# Altium footprint library BioRocketFootprints.pcblib: 40 footprints (part 1 of 3)
Each footprint in its own frame and in the unit in brackets; x right, y up, seen from the top. Pads: shape width x height; smd on the part's side, far side on the other; paste and mask are expansions set on the pad; w line width, h text height; cw(c..) or ccw(c..) is an arc to the next point about the centre after c.
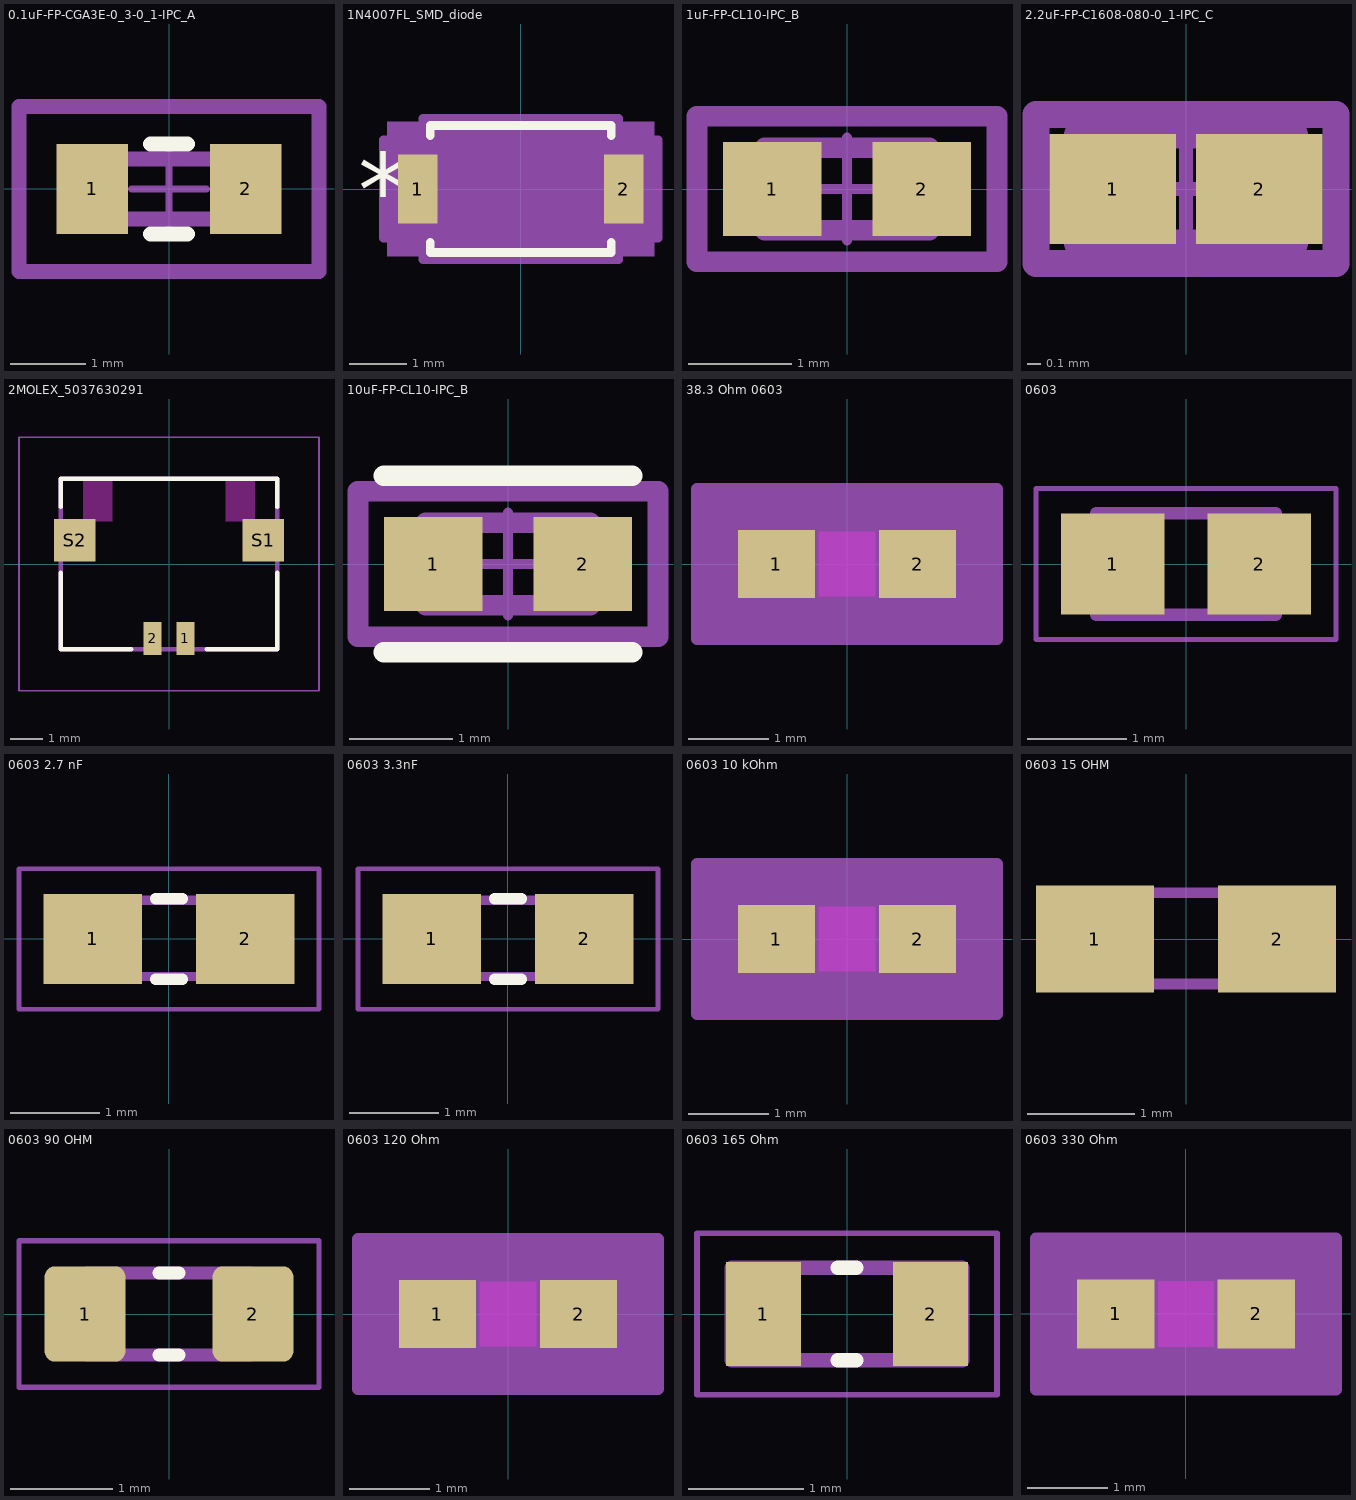
[diagram p0: the footprints below, top view; thin cyan lines are the x and y axes]

## 0.1uF-FP-CGA3E-0_3-0_1-IPC_A [mm]
pads (2):
  rect 0.956x1.206 smd paste+0 mask+0: 1(-1.025,0) 2(1.025,0)
Top Overlay:
  lines w0.2: -0.247,-0.603 0.247,-0.603 ; -0.247,0.603 0.247,0.603
Top Assembly:
  lines w0.2: -2.003,-1.103 -2.003,1.103 2.003,1.103 2.003,-1.103 -2.003,-1.103
  text ".Designator" at 0,0.188 h1
Top Courtyard:
  lines w0.2: -2.003,-1.103 -2.003,1.103 2.003,1.103 2.003,-1.103 -2.003,-1.103
Top Component Center:
  lines w0.1: -0.5,0 0.5,0 ; 0,-0.5 0,0.5
Top 3D Body:
  lines w0.2: -0.8,-0.4 -0.8,0.4 0.8,0.4 0.8,-0.4 -0.8,-0.4
3D body "Cap_TDK_CGA3E3X7R1E334K080AB_eec.STEP": height 0.25, standoff 0, extent -2.003,-1.103 2.003,1.103

## 1N4007FL_SMD_diode [mil]
pads (2):
  rect 27x47 smd paste+0 mask+0: 1(-70.5,0) 2(70.5,0)
Top Overlay:
  lines w6: -62,-36.6 -62,-43.5 62,-43.5 62,-36.6 ; -62,36.6 -62,43.5 62,43.5 62,36.6
  text "*" at -111.5,-25 h50
Top Designator:
  region: 91.5,-46 -91.5,-46 -91.5,46 91.5,46
Top 3D Body:
  lines w1: -57,-19.25 -37.75,-38.5 ; -57,19.25 -37.75,38.5 ; -76,-23.5 -57,-23.5 -57,23.5 -76,23.5 -76,-23.5 ; -57,-38.5 -57,38.5 57,38.5 57,-38.5 -57,-38.5 ; 57,-23.5 76,-23.5 76,23.5 57,23.5 57,-23.5
  text "*" at -59.5,-25 h50
Top Courtyard (Mech15):
  region: -67,-33.5 -94,-33.5 -94,33.5 -67,33.5 -67,48.5 67,48.5 67,33.5 94,33.5 94,-33.5 67,-33.5 67,-48.5 -67,-48.5
  lines w6: -94,-33.5 -67,-33.5 -67,-48.5 67,-48.5 67,-33.5 94,-33.5 94,33.5 67,33.5 67,48.5 -67,48.5 -67,33.5 -94,33.5 -94,-33.5
3D body "CR_SOD-123FL_SME.step": height 55.24, standoff 0, extent -75.98,-38.5 75.98,38.5

## 1uF-FP-CL10-IPC_B [mm]
pads (2):
  rect 0.958x0.912 smd paste+0 mask+0: 1(-0.727,0) 2(0.727,0)
Top Assembly:
  lines w0.2: -1.456,-0.706 1.456,-0.706 1.456,0.706 -1.456,0.706 -1.456,-0.706
  text ".Designator" at 0,0.188 h1
Top Courtyard:
  lines w0.2: -1.456,-0.706 1.456,-0.706 1.456,0.706 -1.456,0.706 -1.456,-0.706
Top Component Center:
  lines w0.1: -0.5,0 0.5,0 ; 0,-0.5 0,0.5
Top 3D Body:
  lines w0.2: -0.8,-0.4 -0.8,0.4 0.8,0.4 0.8,-0.4 -0.8,-0.4
3D body "Cap_Samsung_CL10B473KO8NNWC_eec.STEP": height 0.25, standoff 0, extent -1.456,-0.706 1.456,0.706

## 2.2uF-FP-C1608-080-0_1-IPC_C [mm]
pads (2):
  rect 0.931x0.812 smd paste+0 mask+0: 1(-0.541,0) 2(0.541,0)
Top Assembly:
  lines w0.2: -1.106,-0.55 1.106,-0.55 1.106,0.55 -1.106,0.55 -1.106,-0.55
  text ".Designator" at 0,0.188 h1
Top Courtyard:
  lines w0.2: -1.106,-0.55 1.106,-0.55 1.106,0.55 -1.106,0.55 -1.106,-0.55
Top Component Center:
  lines w0.1: -0.5,0 0.5,0 ; 0,-0.5 0,0.5
Top 3D Body:
  lines w0.2: -0.8,-0.4 0.8,-0.4 0.8,0.4 -0.8,0.4 -0.8,-0.4
3D body "Cap_TDK_C1608X6S0G106K080AB_eec.STEP": height 0.25, standoff 0, extent -1.106,-0.55 1.106,0.55

## 2MOLEX_5037630291 [mm]
height 1.5
pads (4):
  rect 0.55x1 smd mask+0.076: 1(0.5,-2.265) 2(-0.5,-2.265)
  rect 1.26x1.3 smd mask+0.076: S1(2.875,0.725) S2(-2.875,0.725)
Top Layer keep-out:
  region: -1.735,1.295 -2.24,1.295 -2.24,1.38 -2.605,1.38 -2.605,2.545 -1.735,2.545
  region: 2.605,1.38 2.24,1.38 2.24,1.295 1.735,1.295 1.735,2.545 2.605,2.545
Top Overlay:
  lines w0.127: -3.3,-0.265 -3.3,-2.595 -1.15,-2.595 ; -3.3,1.735 -3.3,2.595 3.3,2.595 3.3,1.735 ; 1.15,-2.595 3.3,-2.595 3.3,-0.265
Top 3D Body:
  lines w0.127: -3.3,-2.595 -3.3,2.595 3.3,2.595 3.3,-2.595 -3.3,-2.595
Top Courtyard (Mech15):
  lines w0.05: -4.57,-3.865 4.57,-3.865 4.57,3.865 -4.57,3.865 -4.57,-3.865
3D body "5037630291.stp": height 1.42, standoff -0.08, extent -3.3,-2.595 3.3,2.595

## 10uF-FP-CL10-IPC_B [mm]
pads (2):
  rect 0.958x0.912 smd paste+0 mask+0: 1(-0.727,0) 2(0.727,0)
Top Overlay:
  lines w0.2: -1.206,-0.856 1.206,-0.856 ; -1.206,0.856 1.206,0.856
Top Assembly:
  lines w0.2: -1.456,-0.706 1.456,-0.706 1.456,0.706 -1.456,0.706 -1.456,-0.706
  text ".Designator" at 0,0.188 h1
Top Courtyard:
  lines w0.2: -1.456,-0.706 1.456,-0.706 1.456,0.706 -1.456,0.706 -1.456,-0.706
Top Component Center:
  lines w0.1: -0.5,0 0.5,0 ; 0,-0.5 0,0.5
Top 3D Body:
  lines w0.2: -0.8,-0.4 0.8,-0.4 0.8,0.4 -0.8,0.4 -0.8,-0.4
3D body "Cap_Samsung_CL10B473KO8NNWC_eec.STEP": height 0.25, standoff 0, extent -1.456,-0.706 1.456,0.706

## 38.3 Ohm 0603 [mm] "ERJ3EKF38R3V /  / Res Thick Film 0603 38.3 Ohm 1% 0.1W(1/10W) }100ppm/C Molded SMD Automotive Punched T/R"
pads (2):
  rect 0.959x0.851 smd paste+0 mask+0: 1(-0.879,0) 2(0.879,0)
Keep-Out Layer:
  region: -0.349,-0.4 -0.349,0.4 0.349,0.4 0.349,-0.4
Top 3D Body:
  lines w0.025: -0.8,-0.4 -0.8,0.4 ; -0.8,-0.4 0.8,-0.4 ; -0.8,-0.4 -0.4,-0.4 -0.4,0.4 -0.8,0.4 ; -0.8,-0.4 -0.8,0.4 ; -0.8,0.4 0.8,0.4 ; 0.8,-0.4 0.8,0.4 ; 0.8,-0.4 0.8,0.4 ; 0.8,-0.4 0.4,-0.4 0.4,0.4 0.8,0.4
Top Courtyard (Mech15):
  region: 1.867,-0.933 -1.867,-0.933 -1.867,0.933 1.867,0.933
  lines w0.152: -1.867,-0.933 1.867,-0.933 1.867,0.933 -1.867,0.933 -1.867,-0.933
3D body "RC0603N_PAN.step": height 0.71, standoff 0, extent -0.8,-0.4 0.8,0.4

## 0603 [mm]
pads (2):
  rect 1.04x1.02 smd: 1(-0.735,0) 2(0.735,0)
Top 3D Body:
  lines w0.127: -0.9,-0.51 0.9,-0.51 0.9,0.51 -0.9,0.51 -0.9,-0.51
Top Courtyard (Mech15):
  lines w0.05: -1.508,-0.761 1.508,-0.761 1.508,0.761 -1.508,0.761 -1.508,-0.761
3D body "step_temp.STEP": height 0.55, standoff 0, extent -0.8,-0.4 0.8,0.4

## 0603 2.7 nF [mm] "CC0603JRX7R9BB272 / 0603 2.7 nF 50 V ±5 % Tolerance X7R SMT Multilayer Ceramic Capacitor"
pads (2):
  rect 1.1x1 smd: 1(-0.85,0) 2(0.85,0)
Top Overlay:
  lines w0.127: -0.15,-0.45 0.15,-0.45 ; -0.15,0.45 0.15,0.45
Top 3D Body:
  region: -0.338,-0.47 -0.839,-0.47 -0.839,0.48 -0.338,0.48
  region: 0.83,-0.471 0.331,-0.471 0.331,0.48 0.83,0.48
  lines w0.102: -0.356,-0.419 0.356,-0.419 ; -0.356,0.432 0.356,0.432
Top Courtyard (Mech15):
  lines w0.051: -1.673,-0.783 1.673,-0.783 1.673,0.783 -1.673,0.783 -1.673,-0.783

## 0603 3.3nF [mm] "CC0603KPX7R9BB332 / 0603 3.3 nF 50 V ±10% Tolerance X7R SMT Multilayer Ceramic Capacitor"
pads (2):
  rect 1.1x1 smd: 1(-0.85,0) 2(0.85,0)
Top Overlay:
  lines w0.127: -0.15,-0.45 0.15,-0.45 ; -0.15,0.45 0.15,0.45
Top 3D Body:
  region: -0.338,-0.47 -0.839,-0.47 -0.839,0.48 -0.338,0.48
  region: 0.83,-0.471 0.331,-0.471 0.331,0.48 0.83,0.48
  lines w0.102: -0.356,-0.419 0.356,-0.419 ; -0.356,0.432 0.356,0.432
Top Courtyard (Mech15):
  lines w0.051: -1.673,-0.783 1.673,-0.783 1.673,0.783 -1.673,0.783 -1.673,-0.783
3D body "step_temp.STEP": height 0.9, standoff 0, extent -0.8,-0.4 0.8,0.4

## 0603 10 kOhm [mm] "ERJ-3GEYJ103V /  / SMD Chip Resistor, 10 kOhm, ï¿½ 5%, 100 mW, 0603 [1608 Metric], Thick Film, General Purpose"
pads (2):
  rect 0.959x0.851 smd paste+0 mask+0: 1(-0.879,0) 2(0.879,0)
Top Layer keep-out:
  region: -0.349,-0.349 -0.349,0.349 0.349,0.349 0.349,-0.349
Keep-Out Layer:
  region: -0.349,-0.4 -0.349,0.4 0.349,0.4 0.349,-0.4
Top 3D Body:
  lines w0.025: -0.8,-0.4 -0.8,0.4 ; -0.8,-0.4 -0.4,-0.4 -0.4,0.4 -0.8,0.4 ; -0.8,-0.4 0.8,-0.4 ; -0.8,-0.4 -0.8,0.4 ; -0.8,0.4 0.8,0.4 ; 0.8,-0.4 0.4,-0.4 0.4,0.4 0.8,0.4 ; 0.8,-0.4 0.8,0.4 ; 0.8,-0.4 0.8,0.4
Top Courtyard (Mech15):
  region: 1.867,-0.933 -1.867,-0.933 -1.867,0.933 1.867,0.933
  lines w0.152: -1.867,-0.933 -1.867,0.933 1.867,0.933 1.867,-0.933 -1.867,-0.933
3D body "RC0603N_PAN.step": height 0.71, standoff 0, extent -0.8,-0.4 0.8,0.4

## 0603 15 OHM [mm] "RC0603FR-1015RL"
pads (2):
  rect 1.1x1 smd: 1(-0.85,0) 2(0.85,0)
Top 3D Body:
  region: -0.338,-0.47 -0.839,-0.47 -0.839,0.48 -0.338,0.48
  region: 0.83,-0.47 0.331,-0.47 0.331,0.48 0.83,0.48
  lines w0.102: -0.356,-0.419 0.356,-0.419 ; -0.356,0.432 0.356,0.432
3D body "step_temp.STEP": height 0.9, standoff 0, extent -0.8,-0.4 0.8,0.4

## 0603 90 OHM [mm] "RC0603FR-0790RL / 90 Ohm 1/10W 1% Thick Film General Purpose 0603 Chip Resistor"
height 0.55
pads (2):
  rrect25% 0.79x0.93 smd: 1(-0.82,0) 2(0.82,0)
Top Overlay:
  lines w0.127: -0.1,-0.4 0.1,-0.4 ; -0.1,0.4 0.1,0.4
Top 3D Body:
  lines w0.127: -0.8,-0.4 -0.8,0.4 0.8,0.4 0.8,-0.4 -0.8,-0.4
Top Courtyard (Mech15):
  lines w0.05: -1.465,-0.715 -1.465,0.715 1.465,0.715 1.465,-0.715 -1.465,-0.715
3D body "step_temp.STEP": height 0.55, standoff 0, extent -0.8,-0.4 0.8,0.4

## 0603 120 Ohm [mm]
pads (2):
  rect 0.959x0.851 smd paste+0 mask+0: 1(-0.879,0) 2(0.879,0)
Top Layer keep-out:
  region: -0.349,-0.349 -0.349,0.349 0.349,0.349 0.349,-0.349
Keep-Out Layer:
  region: -0.349,-0.4 -0.349,0.4 0.349,0.4 0.349,-0.4
Top 3D Body:
  lines w0.025: -0.8,-0.4 -0.8,0.4 ; -0.8,-0.4 0.8,-0.4 ; -0.8,-0.4 -0.4,-0.4 -0.4,0.4 -0.8,0.4 ; -0.8,-0.4 -0.8,0.4 ; -0.8,0.4 0.8,0.4 ; 0.8,-0.4 0.8,0.4 ; 0.8,-0.4 0.8,0.4 ; 0.8,-0.4 0.4,-0.4 0.4,0.4 0.8,0.4
Top Courtyard (Mech15):
  region: 1.867,-0.933 -1.867,-0.933 -1.867,0.933 1.867,0.933
  lines w0.152: -1.867,-0.933 1.867,-0.933 1.867,0.933 -1.867,0.933 -1.867,-0.933
3D body "RC0603N_PAN.step": height 0.71, standoff 0, extent -0.8,-0.4 0.8,0.4

## 0603 165 Ohm [mm] "ERA-3AED1650V / Res Thin Film 0603 165 Ohm 0.5% 1/10W 25ppm/C Molded SMD SMD Punched Carrier T/R"
pads (2):
  rect 0.65x0.9 smd: 1(-0.725,0) 2(0.725,0)
Top Overlay:
  lines w0.127: -0.08,-0.4 0.08,-0.4 ; -0.08,0.4 0.08,0.4
Top 3D Body:
  lines w0.127: -1,-0.4 1,-0.4 1,0.4 -1,0.4 -1,-0.4
Top Courtyard (Mech15):
  lines w0.05: -1.3,-0.7 1.3,-0.7 1.3,0.7 -1.3,0.7 -1.3,-0.7
3D body "ERA-3AED1650V.STEP": height 0.45, standoff 0, extent -0.8,-0.4 0.8,0.4

## 0603 330 Ohm [mil]
pads (2):
  rect 38x34 smd paste+0 mask+0: 1(-34.5,0) 2(34.5,0)
Top Layer keep-out:
  region: -13.5,-14 -13.5,14 13.5,14 13.5,-14
Keep-Out Layer:
  region: -13.5,-16 -13.5,16 13.5,16 13.5,-16
Top 3D Body:
  lines w1: -31.5,-16 -31.5,16 ; -31.5,-16 -15.5,-16 -15.5,16 -31.5,16 ; -31.5,-16 31.5,-16 ; -31.5,-16 -31.5,16 ; -31.5,16 31.5,16 ; 31.5,-16 15.5,-16 15.5,16 31.5,16 ; 31.5,-16 31.5,16 ; 31.5,-16 31.5,16
Top Courtyard (Mech15):
  region: 73.5,-37 -73.5,-37 -73.5,37 73.5,37
  lines w6: -73.5,-37 -73.5,37 73.5,37 73.5,-37 -73.5,-37
3D body "RC0603N_YAG.step": height 27.99, standoff 0, extent -31.5,-15.98 31.5,15.98